# Altium footprint library PickPlacePad.PcbLib: 2 footprints
Each footprint in its own frame and in the unit in brackets; x right, y up, seen from the top. Pads: shape width x height; smd on the part's side, far side on the other; paste and mask are expansions set on the pad; w line width, h text height; cw(c..) or ccw(c..) is an arc to the next point about the centre after c.
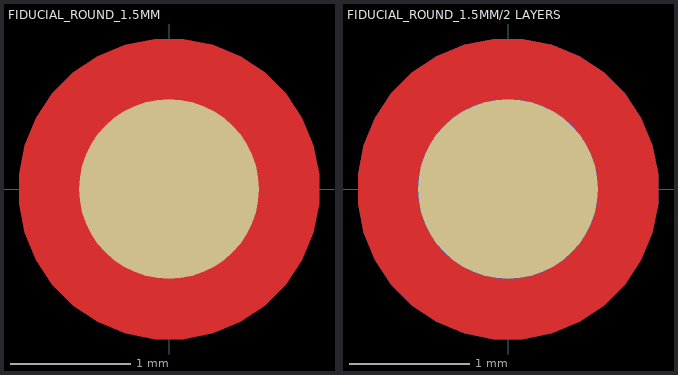
[diagram p0: the footprints below, top view; thin cyan lines are the x and y axes]

## FIDUCIAL_ROUND_1.5MM [mm]
pads (2):
  round 1.5 smd paste-3: ""(0,0)
  round 2.5 on Top Solder: ""(0,0)
Top Layer:
  pour cut-out: 0,-1.25 -0.123,-1.25 -0.365,-1.202 -0.592,-1.108 -0.797,-0.971 -0.971,-0.797 -1.108,-0.592 -1.202,-0.365 -1.25,-0.123 -1.25,0 -1.25,0.123 -1.202,0.365 -1.108,0.592 -0.971,0.797 -0.797,0.971 -0.592,1.108 -0.365,1.202 -0.123,1.25 0,1.25 0.123,1.25 0.365,1.202 0.592,1.108 0.797,0.971 0.971,0.797 1.108,0.592 1.202,0.365 1.25,0.123 1.25,0 1.25,-0.123 1.202,-0.365 1.108,-0.592 0.971,-0.797 0.797,-0.971 0.592,-1.108 0.365,-1.202 0.123,-1.25

## FIDUCIAL_ROUND_1.5MM/2 LAYERS [mm]
pads (4):
  round 1.5 smd paste-3: ""(0,0)
  round 2.5 on Top Solder: ""(0,0)
  round 1.5 smd far side paste-3: ""(0,0)
  round 2.5 on Bottom Solder: ""(0,0)
Top Layer:
  pour cut-out: 0,-1.25 -0.123,-1.25 -0.365,-1.202 -0.592,-1.108 -0.797,-0.971 -0.971,-0.797 -1.108,-0.592 -1.202,-0.365 -1.25,-0.123 -1.25,0 -1.25,0.123 -1.202,0.365 -1.108,0.592 -0.971,0.797 -0.797,0.971 -0.592,1.108 -0.365,1.202 -0.123,1.25 0,1.25 0.123,1.25 0.365,1.202 0.592,1.108 0.797,0.971 0.971,0.797 1.108,0.592 1.202,0.365 1.25,0.123 1.25,0 1.25,-0.123 1.202,-0.365 1.108,-0.592 0.971,-0.797 0.797,-0.971 0.592,-1.108 0.365,-1.202 0.123,-1.25
Bottom Layer:
  pour cut-out: 0,-1.25 -0.123,-1.25 -0.365,-1.202 -0.592,-1.108 -0.797,-0.971 -0.971,-0.797 -1.108,-0.592 -1.202,-0.365 -1.25,-0.123 -1.25,0 -1.25,0.123 -1.202,0.365 -1.108,0.592 -0.971,0.797 -0.797,0.971 -0.592,1.108 -0.365,1.202 -0.123,1.25 0,1.25 0.123,1.25 0.365,1.202 0.592,1.108 0.797,0.971 0.971,0.797 1.108,0.592 1.202,0.365 1.25,0.123 1.25,0 1.25,-0.123 1.202,-0.365 1.108,-0.592 0.971,-0.797 0.797,-0.971 0.592,-1.108 0.365,-1.202 0.123,-1.25